# Altium schematic symbol library AltiumDesigner.SchLib: 2 symbols
Pins are listed as number, name and electrical type; pins without a type are passive.

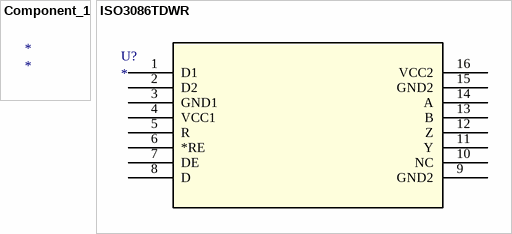
[diagram p0: symbols Component_1 to ISO3086TDWR]

## Component_1
designator *

## ISO3086TDWR
designator U?
Imported; Manufacturer: Texas Instruments; Manufacturer_Part_Number: ISO3086TDWR; Built_By: EMA_UL_Team; C: Copyright (C) 2015 Accelerated Designs. All rights reserved; Vendor: Texas Instruments; RefDes: RefDes; Type: DEV; Value: Value
footprint DW16
pins: 1 D1, 2 D2, 3 GND1 (power), 4 VCC1 (power), 5 R, 6 *RE, 7 DE, 8 D, 9 GND2 (power), 10 NC, 11 Y, 12 Z, 13 B, 14 A, 15 GND2 (power), 16 VCC2 (power)